# Altium footprint library SAW_QCC8C_SM5050-8_5x5.PcbLib: 1 footprints
Each footprint in its own frame and in the unit in brackets; x right, y up, seen from the top. Pads: shape width x height; smd on the part's side, far side on the other; paste and mask are expansions set on the pad; w line width, h text height; cw(c..) or ccw(c..) is an arc to the next point about the centre after c.
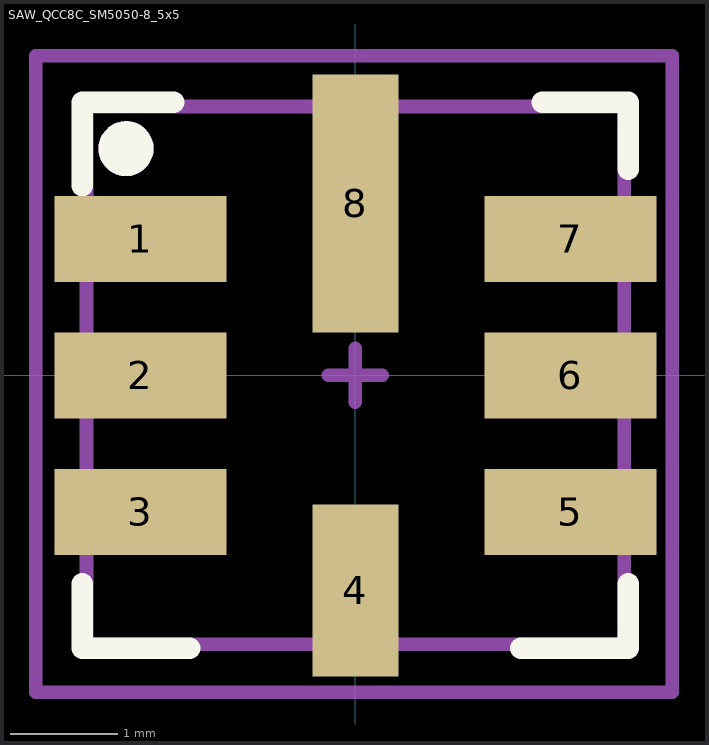
[diagram p0: the footprint, top view; thin cyan lines are the x and y axes]

## SAW_QCC8C_SM5050-8_5x5 [mm]
height 1.35
pads (8):
  rect 1.6x0.8 smd: 1(-2,1.27) 2(-2,0) 3(-2,-1.27) 5(2,-1.27) 6(2,0) 7(2,1.27)
  rect 0.8x1.6 smd: 4(0,-2)
  rect 0.8x2.4 smd: 8(0,1.6)
Top Overlay:
  circle w0.254: c-2.134,2.108 r0.129
  lines w0.2: -2.54,-1.94 -2.54,-2.54 -1.54,-2.54 ; -2.54,1.765 -2.54,2.54 -1.689,2.54 ; 1.537,-2.54 2.537,-2.54 ; 1.74,2.54 2.54,2.54 ; 2.54,-2.54 2.54,-1.94 ; 2.54,1.915 2.54,2.515
Mechanical 13:
  circle w0.254: c-2.134,2.108 r0.129
  lines w0.127: -2.5,-2.5 2.5,-2.5 2.5,2.5 -2.5,2.5 -2.5,-2.5
Mechanical 15:
  lines w0.127: -0.25,0 0.25,0 ; 0,-0.25 0,0.25 ; -2.972,-2.946 -2.972,2.972 2.946,2.972 2.946,-2.946 -2.972,-2.946
Mechanical 17:
  text "'.Designator'" at -2.426,-0.622 h0.41
Mechanical 19:
  text "'.Comment'" at -2.426,-0.622 h0.41
3D body "SW3dPS-QCC8C.STEP": height 1.37, standoff -0.09, extent -2.525,-2.464 2.475,2.536